# EAGLE library part NE5534 (library op-amp)
OP-AMP
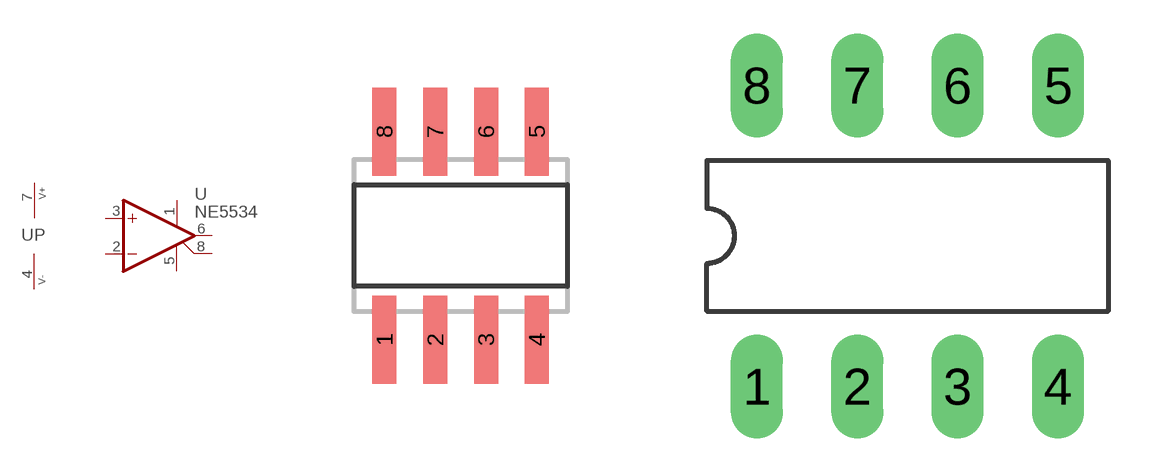
[diagram p1: symbol with the pads of SO08; footprints SO08, DIL08]

Designator prefix U; gates P=PWR_V+- -BAL=_BAL -BALCOMP=_BALCOMP A=OPAMP_PV

## NE5534D (P1I: o)  [SO08]
1  -BAL:BAL  pas
2  A:-IN  in
3  A:+IN  in
4  P:V-  pwr
5  -BALCOMP:CMP  pas
6  A:OUT  out
7  P:V+  pwr
8  -BALCOMP:BAL/CMP  pas

## NE5534N  [DIL08]
Pads as for SO08

## NE5534PS (P1I: o)  [SOP08]
Pads as for SO08

## Footprint SO08 (pad centres in mm)
SMALL OUTLINE INTEGRATED CIRCUIT body 3.9 mm/JEDEC MS-012AA
smd 0.6 x 2.2: 1 -1.905,-2.6; 2 -0.635,-2.6; 3 0.635,-2.6; 4 1.905,-2.6; 5 1.905,2.6; 6 0.635,2.6; 7 -0.635,2.6; 8 -1.905,2.6

## Footprint DIL08 (pad centres in mm)
Dual In Line Package
drill 0.813 long: 1 -3.81,-3.81; 2 -1.27,-3.81; 3 1.27,-3.81; 4 3.81,-3.81; 5 3.81,3.81; 6 1.27,3.81; 7 -1.27,3.81; 8 -3.81,3.81

## Footprint SOP08 (pad centres in mm)
SMALL OUTLINE INTEGRATED CIRCUIT 200 MIL BODY WIDTH (5.6MM X 6.9MM)
smd 0.6 x 2.2: 1 -1.905,-3.53; 2 -0.635,-3.53; 3 0.635,-3.53; 4 1.905,-3.53; 5 1.905,3.53; 6 0.635,3.53; 7 -0.635,3.53; 8 -1.905,3.53